# Altium schematic symbol library Switch_Hittite_HMC849LP4CE.SchLib: 1 symbol
Pins are listed as number, name and electrical type; pins without a type are passive.

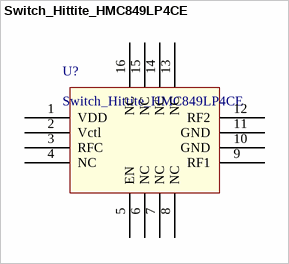
[diagram p0: symbol Switch_Hittite_HMC849LP4CE]

## Switch_Hittite_HMC849LP4CE
designator U?
HIGH ISOLATION SPDT  NON-REFLECTIVE SWITCH, DC - 6 GHz, Isolation 60dB
pins: 1 VDD (power), 2 Vctl, 3 RFC, 4 NC, 5 EN, 6 NC, 7 NC, 8 NC, 9 RF1, 10 GND (power), 11 GND (power), 12 RF2, 13 NC, 14 NC, 15 NC, 16 NC